# Altium schematic symbol library 44164.Schlib: 1 symbol
Pins are listed as number, name and electrical type; pins without a type are passive.

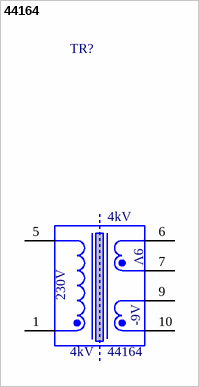
[diagram p0: symbol 44164]

## 44164
designator TR?
Transformer 230V/2x9V, 2x128mA; ComponentLink1Description: Datasheet; ComponentLink1URL: https://www.tme.eu/Document/cb1d7fdbe3570188ff28030ca3a4f1cf/Catalogue%20Myrra%202018%20compress%C3%A9.pdf
footprint 44164
pins: 1 (power), 5 (power), 6 (power), 7 (power), 9 (power), 10 (power)
text: 4kV; 9V; 230V; -9V